# Altium schematic symbol library esd200.SchLib: 2 symbols
Pins are listed as number, name and electrical type; pins without a type are passive.

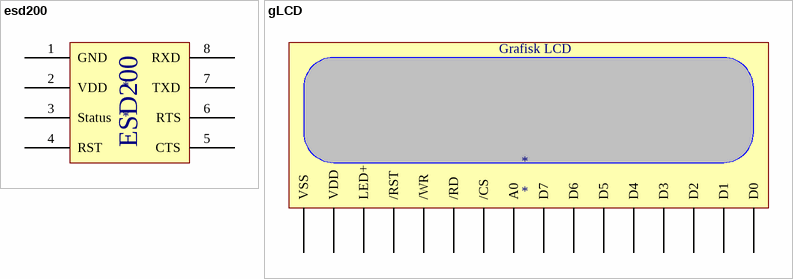
[diagram p0: symbols esd200 to gLCD]

## esd200
designator *
pins: 1 GND, 2 VDD (power), 3 Status, 4 RST, 5 CTS, 6 RTS, 7 TXD, 8 RXD
text: ESD200

## gLCD
designator *
pins: 0 D0, 1 D1, 2 D2, 3 D3, 4 D4, 5 D5, 6 D6, 7 D7, 8 VSS, 9 VDD, 10 LED+, 11 /RST, 12 /WR, 13 /RD, 14 /CS, 15 A0
text: Grafisk LCD